# EAGLE library part LISA-U2 (library ubloxLib)
LISA-U2: 3.75G HSPA / HSPA+ Cellular Module u-blox.com
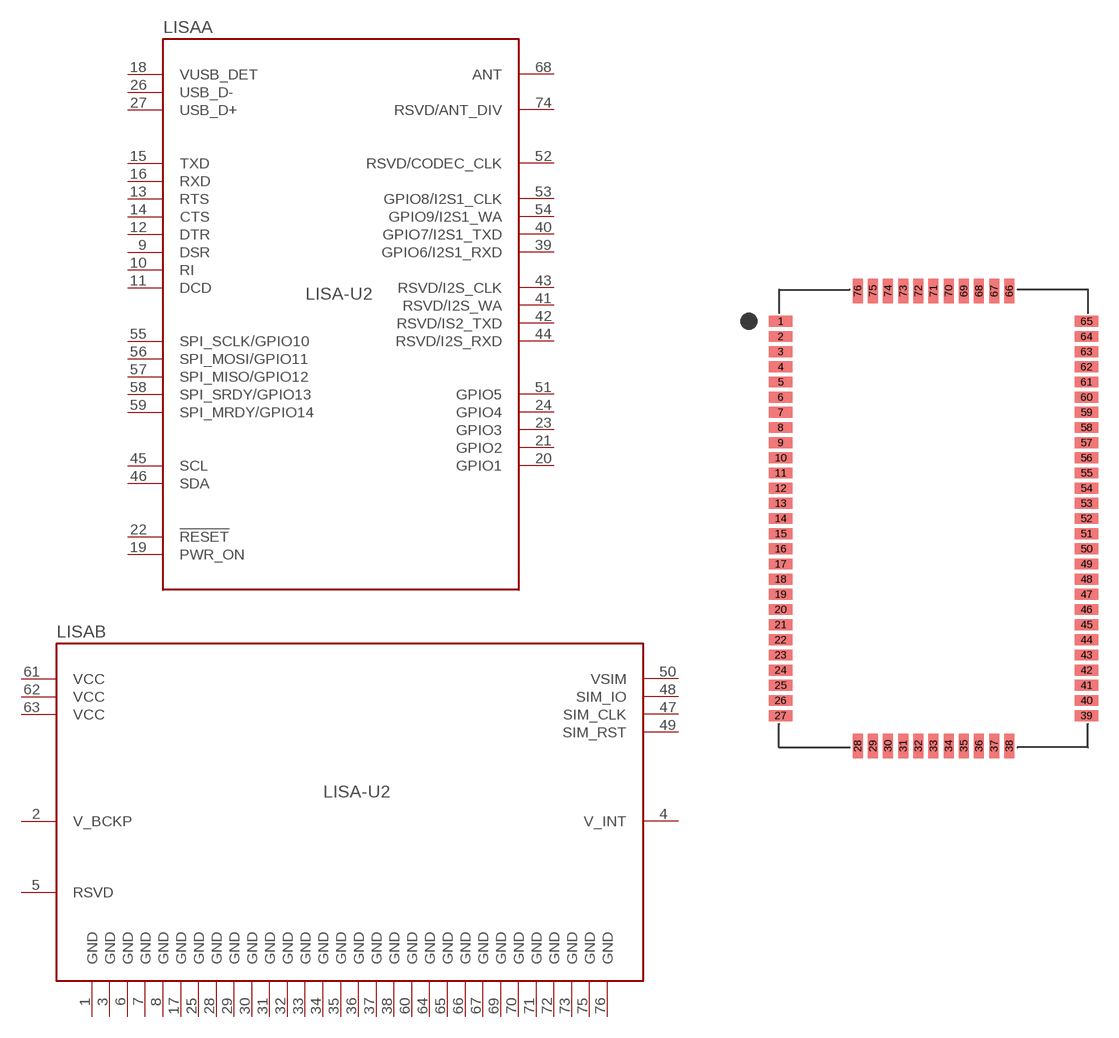
[diagram p13: symbol with the pads of LISA-76; footprint LISA-76]

Designator prefix LISA; gates A=LISA-XXA B=LISA-XXB

## LISA-U2  [LISA-76]
1  B:GND  pwr
2  B:V_BCKP  pwr
3  B:GND  pwr
4  B:V_INT  pwr
5  B:RSVD  nc
6  B:GND  pwr
7  B:GND  pwr
8  B:GND  pwr
9  A:DSR  out
10  A:RI  out
11  A:DCD  out
12  A:DTR  in
13  A:RTS  in
14  A:CTS  out
15  A:TXD  in
16  A:RXD  out
17  B:GND  pwr
18  A:VUSB_DET  in
19  A:PWR_ON  in
20  A:GPIO1
21  A:GPIO2
22  A:!RESET  in
23  A:GPIO3
24  A:GPIO4
25  B:GND  pwr
26  A:USB_D-
27  A:USB_D+
28  B:GND  pwr
29  B:GND  pwr
30  B:GND  pwr
31  B:GND  pwr
32  B:GND  pwr
33  B:GND  pwr
34  B:GND  pwr
35  B:GND  pwr
36  B:GND  pwr
37  B:GND  pwr
38  B:GND  pwr
39  A:GPIO6/I2S1_RXD
40  A:GPIO7/I2S1_TXD
41  A:RSVD/I2S_WA
42  A:RSVD/IS2_TXD  out
43  A:RSVD/I2S_CLK
44  A:RSVD/I2S_RXD  in
45  A:SCL  out
46  A:SDA
47  B:SIM_CLK  out
48  B:SIM_IO
49  B:SIM_RST  out
50  B:VSIM  pwr
51  A:GPIO5
52  A:RSVD/CODEC_CLK  out
53  A:GPIO8/I2S1_CLK
54  A:GPIO9/I2S1_WA
55  A:SPI_SCLK/GPIO10
56  A:SPI_MOSI/GPIO11
57  A:SPI_MISO/GPIO12
58  A:SPI_SRDY/GPIO13
59  A:SPI_MRDY/GPIO14
60  B:GND  pwr
61  B:VCC  pwr
62  B:VCC  pwr
63  B:VCC  pwr
64  B:GND  pwr
65  B:GND  pwr
66  B:GND  pwr
67  B:GND  pwr
68  A:ANT
69  B:GND  pwr
70  B:GND  pwr
71  B:GND  pwr
72  B:GND  pwr
73  B:GND  pwr
74  A:RSVD/ANT_DIV  in
75  B:GND  pwr
76  B:GND  pwr

## Footprint LISA-76 (pad centres in mm)
LISA-U2: Castellated Package 76 Pin u-blox.com
smd 1.8 x 0.8: 1 -11.1,14.3; 2 -11.1,13.2; 3 -11.1,12.1; 4 -11.1,11; 5 -11.1,9.9; 6 -11.1,8.8; 7 -11.1,7.7; 8 -11.1,6.6; 9 -11.1,5.5; 10 -11.1,4.4; 11 -11.1,3.3; 12 -11.1,2.2; 13 -11.1,1.1; 14 -11.1,0; 15 -11.1,-1.1; 16 -11.1,-2.2; 17 -11.1,-3.3; 18 -11.1,-4.4; 19 -11.1,-5.5; 20 -11.1,-6.6; 21 -11.1,-7.7; 22 -11.1,-8.8; 23 -11.1,-9.9; 24 -11.1,-11; 25 -11.1,-12.1; 26 -11.1,-13.2; 27 -11.1,-14.3; 39 11.1,-14.3; 40 11.1,-13.2; 41 11.1,-12.1; 42 11.1,-11; 43 11.1,-9.9; 44 11.1,-8.8; 45 11.1,-7.7; 46 11.1,-6.6; 47 11.1,-5.5; 48 11.1,-4.4; 49 11.1,-3.3; 50 11.1,-2.2; 51 11.1,-1.1; 52 11.1,0; 53 11.1,1.1; 54 11.1,2.2; 55 11.1,3.3; 56 11.1,4.4; 57 11.1,5.5; 58 11.1,6.6; 59 11.1,7.7; 60 11.1,8.8; 61 11.1,9.9; 62 11.1,11; 63 11.1,12.1; 64 11.1,13.2; 65 11.1,14.3
smd 0.8 x 1.8: 28 -5.5,-16.5; 29 -4.4,-16.5; 30 -3.3,-16.5; 31 -2.2,-16.5; 32 -1.1,-16.5; 33 0,-16.5; 34 1.1,-16.5; 35 2.2,-16.5; 36 3.3,-16.5; 37 4.4,-16.5; 38 5.5,-16.5; 66 5.5,16.5; 67 4.4,16.5; 68 3.3,16.5; 69 2.2,16.5; 70 1.1,16.5; 71 0,16.5; 72 -1.1,16.5; 73 -2.2,16.5; 74 -3.3,16.5; 75 -4.4,16.5; 76 -5.5,16.5